# EAGLE library part ULN2003A (library partlibrary)
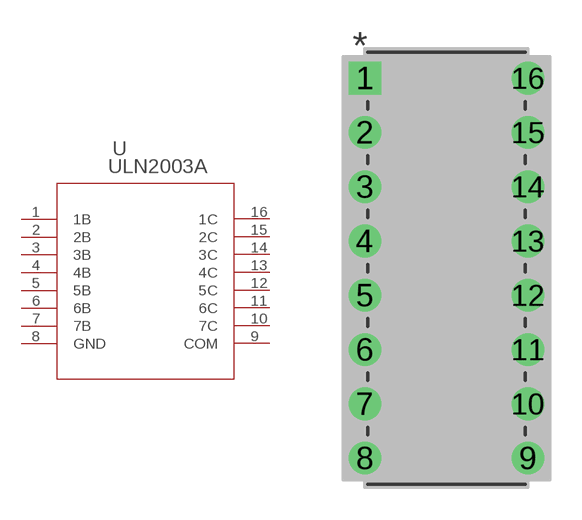
[diagram p4: symbol with the pads of DIP-16; footprint DIP-16]

Designator prefix U

## ULN2003A (MANUFACTURER_PART_NUMBER: ULN2003A; VENDOR: STMicroelectronics)  [DIP-16]
1  1B  in
2  2B  in
3  3B  in
4  4B  in
5  5B  in
6  6B  in
7  7B  in
8  GND  pas
9  COM  pas
10  7C  pas
11  6C  pas
12  5C  pas
13  4C  pas
14  3C  pas
15  2C  pas
16  1C  pas

## Footprint DIP-16 (pad centres in mm)
drill 0.813 pad 1.524 square: 1 -7.62,17.78
drill 0.813 pad 1.524: 2 -7.62,15.24; 3 -7.62,12.7; 4 -7.62,10.16; 5 -7.62,7.62; 6 -7.62,5.08; 7 -7.62,2.54; 8 -7.62,0; 9 0,0; 10 0,2.54; 11 0,5.08; 12 0,7.62; 13 0,10.16; 14 0,12.7; 15 0,15.24; 16 0,17.78